# Altium schematic symbol library 运放-功放.SchLib: 23 symbols
Pins are listed as number, name and electrical type; pins without a type are passive.

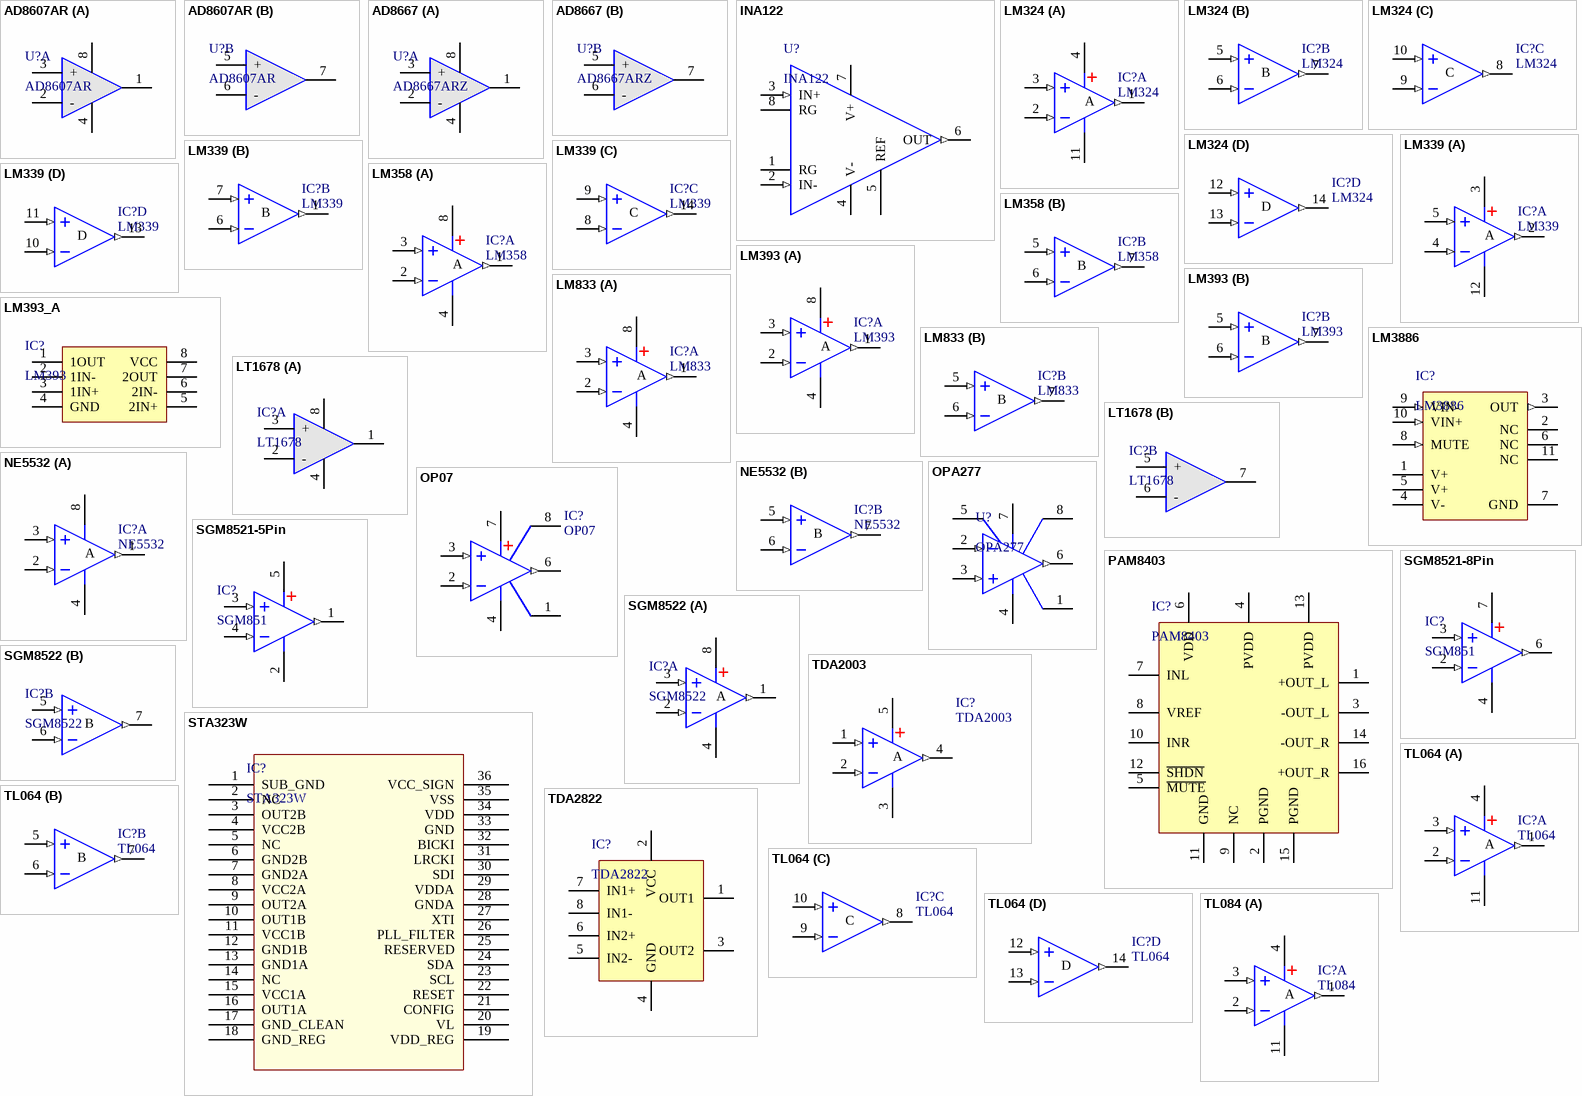
[diagram p0: symbols AD8607AR to TL084]

## AD8607AR
designator U?
双运放; 版权归属: 源创客; BOM名称: 双运放; 学习资源: www.ooocke.com
footprint SOP8_N (5*6*1.8mm（长宽高）)
footprint SOP8_L (5*6*1.8mm（长宽高）)
footprint SOP8_M (5*6*1.8mm（长宽高）)
part A pins: 1 OUT1, 2 -, 3 +, 4 V- (power), 8 V+ (power)
part B pins: 5 +, 6 -, 7 OUT2

## AD8667
designator U?, comment AD8667ARZ
双运放; 版权归属: 源创客; BOM名称: 双运放; 学习资源: www.ooocke.com
footprint SOP8_N (5*6*1.8mm（长宽高）)
footprint SOP8_L (5*6*1.8mm（长宽高）)
footprint SOP8_M (5*6*1.8mm（长宽高）)
part A pins: 1 OUT1, 2 -, 3 +, 4 V- (power), 8 V+ (power)
part B pins: 5 +, 6 -, 7 OUT2

## INA122
designator U?
微功耗仪表运放; 版权归属: 源创客; BOM名称: 微功耗仪表运放; 学习资源: www.ooocke.com
footprint SOP8_L (5*6*1.8mm（长宽高）)
footprint SOP8_M (5*6*1.8mm（长宽高）)
footprint SOP8_N (5*6*1.8mm（长宽高）)
footprint DIP8-300 (9.4*7.6*3.8(长宽高）)
footprint DIP8-300_MH (带底座 9.4*7.6*3.8(长宽高）)
pins: 1 RG, 2 IN- (in), 3 IN+ (in), 4 V-, 5 REF, 6 OUT (out), 7 V+, 8 RG

## LM324
designator IC?
4路运放; 版权归属: 源创客; BOM名称: 4路运放; 学习资源: www.ooocke.com
footprint SOP14_L (8.7*6.2*1.8mm（长宽高）)
footprint SOP14_M (8.7*6.2*1.8mm（长宽高）)
footprint SOP14_N (8.7*6.2*1.8mm（长宽高）)
footprint DIP14-300_MH (带底座  19*7.6*3.8(长宽高）)
footprint DIP14-300 (19*7.6*3.8(长宽高）)
part A pins: 1 OUT (out), 2 IN- (in), 3 IN+ (in), 4 V+ (power), 11 V- (power)
part B pins: 5 IN+ (in), 6 IN- (in), 7 OUT (out)
part C pins: 8 OUT (out), 9 IN- (in), 10 IN+ (in)
part D pins: 12 IN+ (in), 13 IN- (in), 14 OUT (out)
part A text: A
part B text: B
part C text: C
part D text: D

## LM339
designator IC?
四路电压比较; 版权归属: 源创客; BOM名称: 四路电压比较; 学习资源: www.ooocke.com
footprint DIP14-300 (19*7.6*3.8(长宽高）)
footprint DIP14-300_MH (带底座  19*7.6*3.8(长宽高）)
footprint SOP14_L (8.7*6.2*1.8mm（长宽高）)
footprint SOP14_M (8.7*6.2*1.8mm（长宽高）)
footprint SOP14_N (8.7*6.2*1.8mm（长宽高）)
part A pins: 2 OUT (out), 3 V+ (power), 4 IN- (in), 5 IN+ (in), 12 V- (power)
part B pins: 1 OUT (out), 6 IN- (in), 7 IN+ (in)
part C pins: 8 IN- (in), 9 IN+ (in), 14 OUT (out)
part D pins: 10 IN- (in), 11 IN+ (in), 13 OUT (out)
part A text: A
part B text: B
part C text: C
part D text: D

## LM358
designator IC?
双路运放; 版权归属: 源创客; BOM名称: 双路运放; 学习资源: www.ooocke.com
footprint SOP8_L (5*6*1.8mm（长宽高）)
footprint SOP8_N (5*6*1.8mm（长宽高）)
footprint SOP8_M (5*6*1.8mm（长宽高）)
footprint DIP8-300 (9.4*7.6*3.8(长宽高）)
part A pins: 1 OUT (out), 2 IN- (in), 3 IN+ (in), 4 V- (power), 8 V+ (power)
part B pins: 5 IN+ (in), 6 IN- (in), 7 OUT (out)
part A text: A
part B text: B

## LM393
designator IC?
双路电压比较; 版权归属: 源创客; BOM名称: 双路电压比较; 学习资源: www.ooocke.com
footprint SOP8_L (5*6*1.8mm（长宽高）)
footprint SOP8_N (5*6*1.8mm（长宽高）)
footprint SOP8_M (5*6*1.8mm（长宽高）)
footprint DIP8-300 (9.4*7.6*3.8(长宽高）)
part A pins: 1 OUT (out), 2 IN- (in), 3 IN+ (in), 4 V- (power), 8 V+ (power)
part B pins: 5 IN+ (in), 6 IN- (in), 7 OUT (out)
part A text: A
part B text: B

## LM393_A
designator IC?, comment LM393
双路电压比较; 版权归属: 源创客; BOM名称: 双路电压比较; 学习资源: www.ooocke.com
footprint DIP8-300 (9.4*7.6*3.8(长宽高）)
footprint SOP8_L (5*6*1.8mm（长宽高）)
footprint SOP8_N (5*6*1.8mm（长宽高）)
footprint SOP8_M (5*6*1.8mm（长宽高）)
pins: 1 1OUT, 2 1IN-, 3 1IN+, 4 GND, 5 2IN+, 6 2IN-, 7 2OUT, 8 VCC

## LM833
designator IC?
双路运放; 版权归属: 源创客; BOM名称: 双路运放; 学习资源: www.ooocke.com
footprint SOP8_L (5*6*1.8mm（长宽高）)
footprint SOP8_N (5*6*1.8mm（长宽高）)
footprint SOP8_M (5*6*1.8mm（长宽高）)
footprint DIP8-300 (9.4*7.6*3.8(长宽高）)
part A pins: 1 OUT (out), 2 IN- (in), 3 IN+ (in), 4 V- (power), 8 V+ (power)
part B pins: 5 IN+ (in), 6 IN- (in), 7 OUT (out)
part A text: A
part B text: B

## LM3886
designator IC?
大功率音频集成功放; 版权归属: 源创客; BOM名称: 大功率音频集成功放; 学习资源: www.ooocke.com
footprint TO220-11F (TO22 11脚塑封)
pins: 1 V+, 2 NC, 3 OUT (out), 4 V-, 5 V+, 6 NC, 7 GND, 8 MUTE (in), 9 VIN- (in), 10 VIN+ (in), 11 NC

## LT1678
designator IC?
双运放; 版权归属: 源创客; BOM名称: 双运放; 学习资源: www.ooocke.com
footprint SOP8_N (5*6*1.8mm（长宽高）)
footprint SOP8_L (5*6*1.8mm（长宽高）)
footprint SOP8_M (5*6*1.8mm（长宽高）)
part A pins: 1 OUT1, 2 -, 3 +, 4 V- (power), 8 V+ (power)
part B pins: 5 +, 6 -, 7 OUT2

## NE5532
designator IC?
双路低噪声音频运放; 版权归属: 源创客; BOM名称: 双路低噪声音频运放; 学习资源: www.ooocke.com
footprint SOP8_L (5*6*1.8mm（长宽高）)
footprint SOP8_N (5*6*1.8mm（长宽高）)
footprint SOP8_M (5*6*1.8mm（长宽高）)
footprint DIP8-300 (9.4*7.6*3.8(长宽高）)
part A pins: 1 OUT (out), 2 IN- (in), 3 IN+ (in), 4 V- (power), 8 V+ (power)
part B pins: 5 IN+ (in), 6 IN- (in), 7 OUT (out)
part A text: A
part B text: B

## OP07
designator IC?
单路精密运放; 版权归属: 源创客; BOM名称: 单路精密运放; 学习资源: www.ooocke.com
footprint SOP8_L (5*6*1.8mm（长宽高）)
footprint SOP8_N (5*6*1.8mm（长宽高）)
footprint SOP8_M (5*6*1.8mm（长宽高）)
footprint DIP8-300 (9.4*7.6*3.8(长宽高）)
pins: 1, 2 IN- (in), 3 IN+ (in), 4 V- (power), 6 OUT (out), 7 V+ (power), 8

## OPA277
designator U?
双电源高精度运放; 版权归属: 源创客; BOM名称: 双电源高精度运放; 学习资源: www.ooocke.com
footprint SOP8_N (5*6*1.8mm（长宽高）)
footprint SOP8_L (5*6*1.8mm（长宽高）)
footprint SOP8_M (5*6*1.8mm（长宽高）)
pins: 1, 2 IN- (in), 3 IN+ (in), 4 V- (power), 5 NC (power), 6 OS NUL (out), 7, 8

## PAM8403
designator IC?
2X3W D类功放; 版权归属: 源创客; BOM名称: 2X3W D类功放; 学习资源: www.ooocke.com
footprint SOP16_N (10.3*6.2*1.8mm（长宽高）)
footprint SOP16_L (10.3*6.2*1.8mm（长宽高）)
footprint SOP16_M (10.3*6.2*1.8mm（长宽高）)
pins: 1 +OUT_L, 2 PGND, 3 -OUT_L, 4 PVDD, 5 ~{MUTE}, 6 VDD, 7 INL, 8 VREF, 9 NC, 10 INR, 11 GND, 12 ~{SHDN}, 13 PVDD, 14 -OUT_R, 15 PGND, 16 +OUT_R

## SGM8521-5Pin
designator IC?, comment SGM851
轨至轨运放; 版权归属: 源创客; BOM名称: 轨至轨运放; 学习资源: www.ooocke.com
footprint SOT23-5N (3x1.6x1.1mm(长宽高))
footprint SOT23-5L (3x1.6x1.1mm(长宽高))
footprint SOT23-5M (3x1.6x1.1mm(长宽高))
pins: 1 OUT (out), 2 V- (power), 3 IN+ (in), 4 IN- (in), 5 V+ (power)

## SGM8521-8Pin
designator IC?, comment SGM851
轨至轨运放; 版权归属: 源创客; BOM名称: 轨至轨运放; 学习资源: www.ooocke.com
footprint SOP8_N (5*6*1.8mm（长宽高）)
footprint SOP8_L (4*5*1.8mm（长宽高）)
footprint SOP8_M (5*6*1.8mm（长宽高）)
pins: 2 IN- (in), 3 (in), 4 V- (power), 6 OUT (out), 7 V+ (power)

## SGM8522
designator IC?
轨至轨运放; 版权归属: 源创客; BOM名称: 轨至轨运放; 学习资源: www.ooocke.com
footprint SOP8_N (5*6*1.8mm（长宽高）)
footprint SOP8_L (5*6*1.8mm（长宽高）)
footprint SOP8_M (5*6*1.8mm（长宽高）)
part A pins: 1 OUT (out), 2 IN- (in), 3 IN+ (in), 4 V- (power), 8 V+ (power)
part B pins: 5 IN+ (in), 6 IN- (in), 7 OUT (out)
part A text: A
part B text: B

## STA323W
designator IC?
纯数字功放; 版权归属: 源创客; BOM名称: 纯数字功放; 学习资源: www.ooocke.com
footprint PowerSO-36_L (Footprint not found)
footprint PowerSO-36_M (Footprint not found)
footprint PowerSO-36_N (Footprint not found)
pins: 1 SUB_GND, 2 NC, 3 OUT2B, 4 VCC2B, 5 NC, 6 GND2B, 7 GND2A, 8 VCC2A, 9 OUT2A, 10 OUT1B, 11 VCC1B, 12 GND1B, 13 GND1A, 14 NC, 15 VCC1A, 16 OUT1A, 17 GND_CLEAN, 18 GND_REG, 19 VDD_REG, 20 VL, 21 CONFIG, 22 RESET, 23 SCL, 24 SDA, 25 RESERVED, 26 PLL_FILTER, 27 XTI, 28 GNDA, 29 VDDA, 30 SDI, 31 LRCKI, 32 BICKI, 33 GND, 34 VDD, 35 VSS, 36 VCC_SIGN

## TDA2003
designator IC?
单路音频功放; 版权归属: 源创客; BOM名称: 单路音频功放; 学习资源: www.ooocke.com
footprint SOP8_L (5*6*1.8mm（长宽高）)
footprint SOP8_N (5*6*1.8mm（长宽高）)
footprint SOP8_M (5*6*1.8mm（长宽高）)
footprint DIP8-300 (9.4*7.6*3.8(长宽高）)
pins: 1 IN+ (in), 2 IN- (in), 3 V- (power), 4 OUT (out), 5 V+ (power)
text: A

## TDA2822
designator IC?
双通道音频功放; 版权归属: 源创客; BOM名称: 双通道音频功放; 学习资源: www.ooocke.com
footprint DIP8-300 (9.4*7.6*3.8(长宽高）)
footprint SOP8_L (5*6*1.8mm（长宽高）)
footprint SOP8_N (5*6*1.8mm（长宽高）)
footprint SOP8_M (5*6*1.8mm（长宽高）)
footprint DIP8-300_MH (带底座 9.4*7.6*3.8(长宽高）)
pins: 1 OUT1, 2 VCC, 3 OUT2, 4 GND, 5 IN2-, 6 IN2+, 7 IN1+, 8 IN1-

## TL064
designator IC?
4路运放; 版权归属: 源创客; BOM名称: 4路运放; 学习资源: www.ooocke.com
footprint SOP14_L (8.7*6.2*1.8mm（长宽高）)
footprint SOP14_M (8.7*6.2*1.8mm（长宽高）)
footprint SOP14_N (8.7*6.2*1.8mm（长宽高）)
footprint DIP14-300_MH (带底座  19*7.6*3.8(长宽高）)
footprint DIP14-300 (19*7.6*3.8(长宽高）)
part A pins: 1 OUT (out), 2 IN- (in), 3 IN+ (in), 4 V+ (power), 11 V- (power)
part B pins: 5 IN+ (in), 6 IN- (in), 7 OUT (out)
part C pins: 8 OUT (out), 9 IN- (in), 10 IN+ (in)
part D pins: 12 IN+ (in), 13 IN- (in), 14 OUT (out)
part A text: A
part B text: B
part C text: C
part D text: D

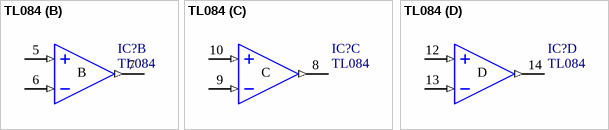
[diagram p1: symbol TL084]

## TL084
designator IC?
4路运放; 版权归属: 源创客; BOM名称: 4路运放; 学习资源: www.ooocke.com
footprint SOP14_L (8.7*6.2*1.8mm（长宽高）)
footprint SOP14_M (8.7*6.2*1.8mm（长宽高）)
footprint SOP14_N (8.7*6.2*1.8mm（长宽高）)
footprint DIP14-300_MH (带底座  19*7.6*3.8(长宽高）)
footprint DIP14-300 (19*7.6*3.8(长宽高）)
part A pins: 1 OUT (out), 2 IN- (in), 3 IN+ (in), 4 V+ (power), 11 V- (power)
part B pins: 5 IN+ (in), 6 IN- (in), 7 OUT (out)
part C pins: 8 OUT (out), 9 IN- (in), 10 IN+ (in)
part D pins: 12 IN+ (in), 13 IN- (in), 14 OUT (out)
part A text: A
part B text: B
part C text: C
part D text: D